# Altium schematic symbol library SM6T12CA.SchLib: 1 symbol
Pins are listed as number, name and electrical type; pins without a type are passive.

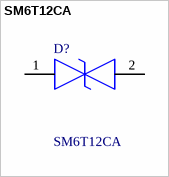
[diagram p0: symbol SM6T12CA]

## SM6T12CA
designator D?
TVS Diode Bi-Directional SM6T12CA 21.7V, 600W, SMB 2-Pin; Manufacturer_Name: STMicroelectronics; Geometry.Height: 2.65mm; Manufacturer_Part_Number: SM6T12CA; Mouser Part Number: 511-SM6T12CA; Mouser Price/Stock: https://www.mouser.co.uk/ProductDetail/STMicroelectronics/SM6T12CA?qs=E0mHVHmM7uZZ%252BnXtu4a9QA%3D%3D; Arrow Part Number: SM6T12CA; Arrow Price/Stock: https://www.arrow.com/en/products/sm6t12ca/stmicroelectronics; Datasheet Link: https://www.st.com/resource/en/datasheet/sm6t100a.pdf
footprint DIONM5436X265N
pins: 1, 2